# Altium schematic symbol library ICs.SchLib: 134 symbols (part 5 of 7)
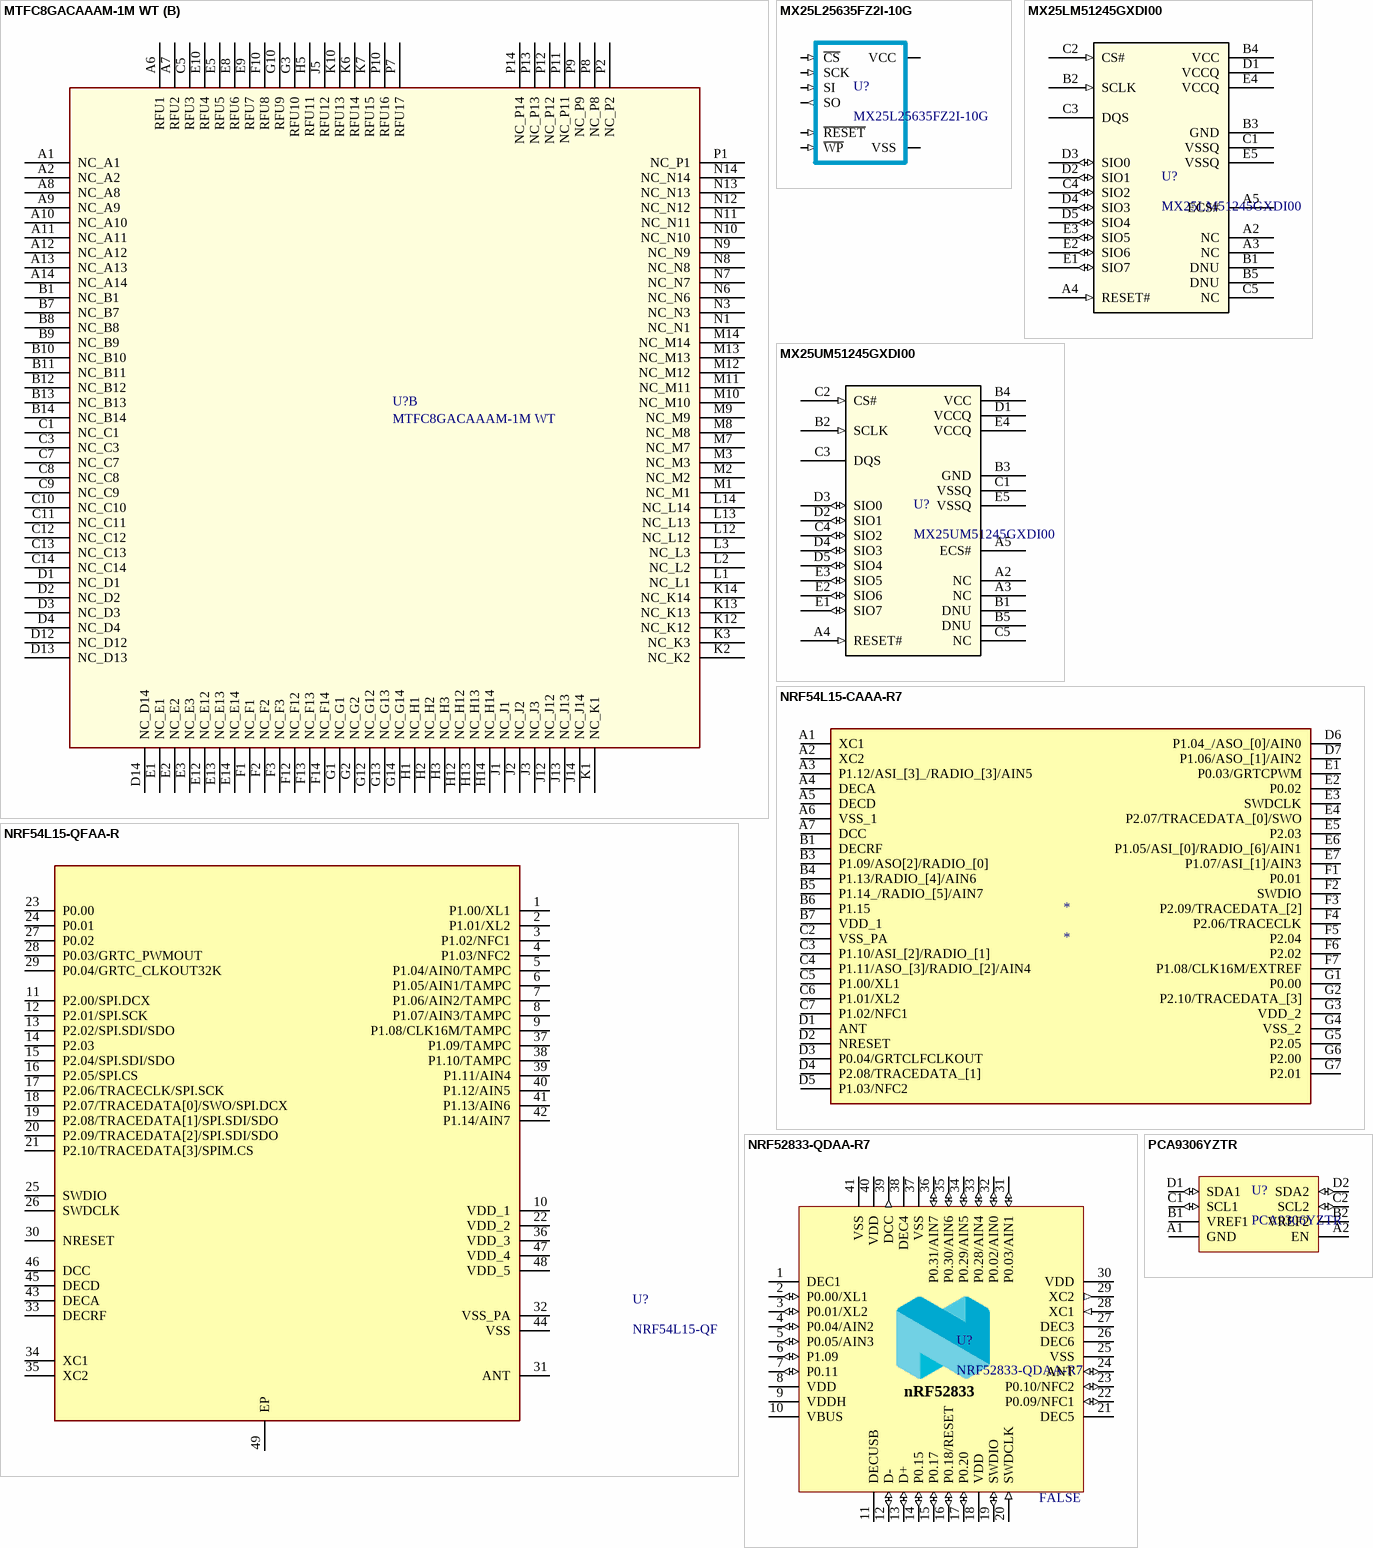
[diagram p30: symbols MTFC8GACAAAM-1M WT to PCA9306YZTR]

## PCA9306YZTR
designator U?
IC V-LEVL XLATR I2C/SMBUS 8DSBGA; Manufacturer: Texas Instruments; Logic Function: Translator, Bidirectional, Open Drain; Number of Bits: 2; Output Type: I²C/SMBus; Number of Outputs/Channel: 1; Differential - Input:Output: No/No; Propagation Delay (Max): 0.3ns; Voltage - Supply: 1.2 V ~ 3.3 V, 1.8 V ~ 5.5 V; Supplier 1: Digi-Key; Supplier Part Number 1: 296-27958-6-ND; Manufacturer Part Number: PCA9306YZTR; RoHS: RoHS Compliant; Category: Integrated Circuits (ICs); Stock 1: 3531; Pricing 1: 1=0.72, 10=0.634, 25=0.56, 100=0.488, 250=0.42484, 500=0.36162, 750=0.31597, 1000=0.28965 (EUR); Packaging: Digi-Reel®; Input Type: I2C/SMBus; Data Rate: -; Number of Channels: 2; Operating Temperature: -40°C ~ 85°C; Package / Case: 8-UFBGA, DSBGA; Supplier Device Package: 8-DSBGA, 8-WCSP (1.9x0.9); Mounting Type: Surface Mount; ComponentLink1URL: http://www.ti.com/lit/ds/symlink/pca9306.pdf; ComponentLink1Description: http://www.ti.com/lit/ds/symlink/pca9306.pdf
footprint BGA8C50P2X4_89X189X62 (BGA, 8-Leads, Body 0.89x1.89mmx0.63mm, Pitch 0.50mm)
pins: A1 GND (power), A2 EN (power), B1 VREF1 (power), B2 VREF2 (power), C1 SCL1 (io), C2 SCL2 (io), D1 SDA1 (io), D2 SDA2 (io)

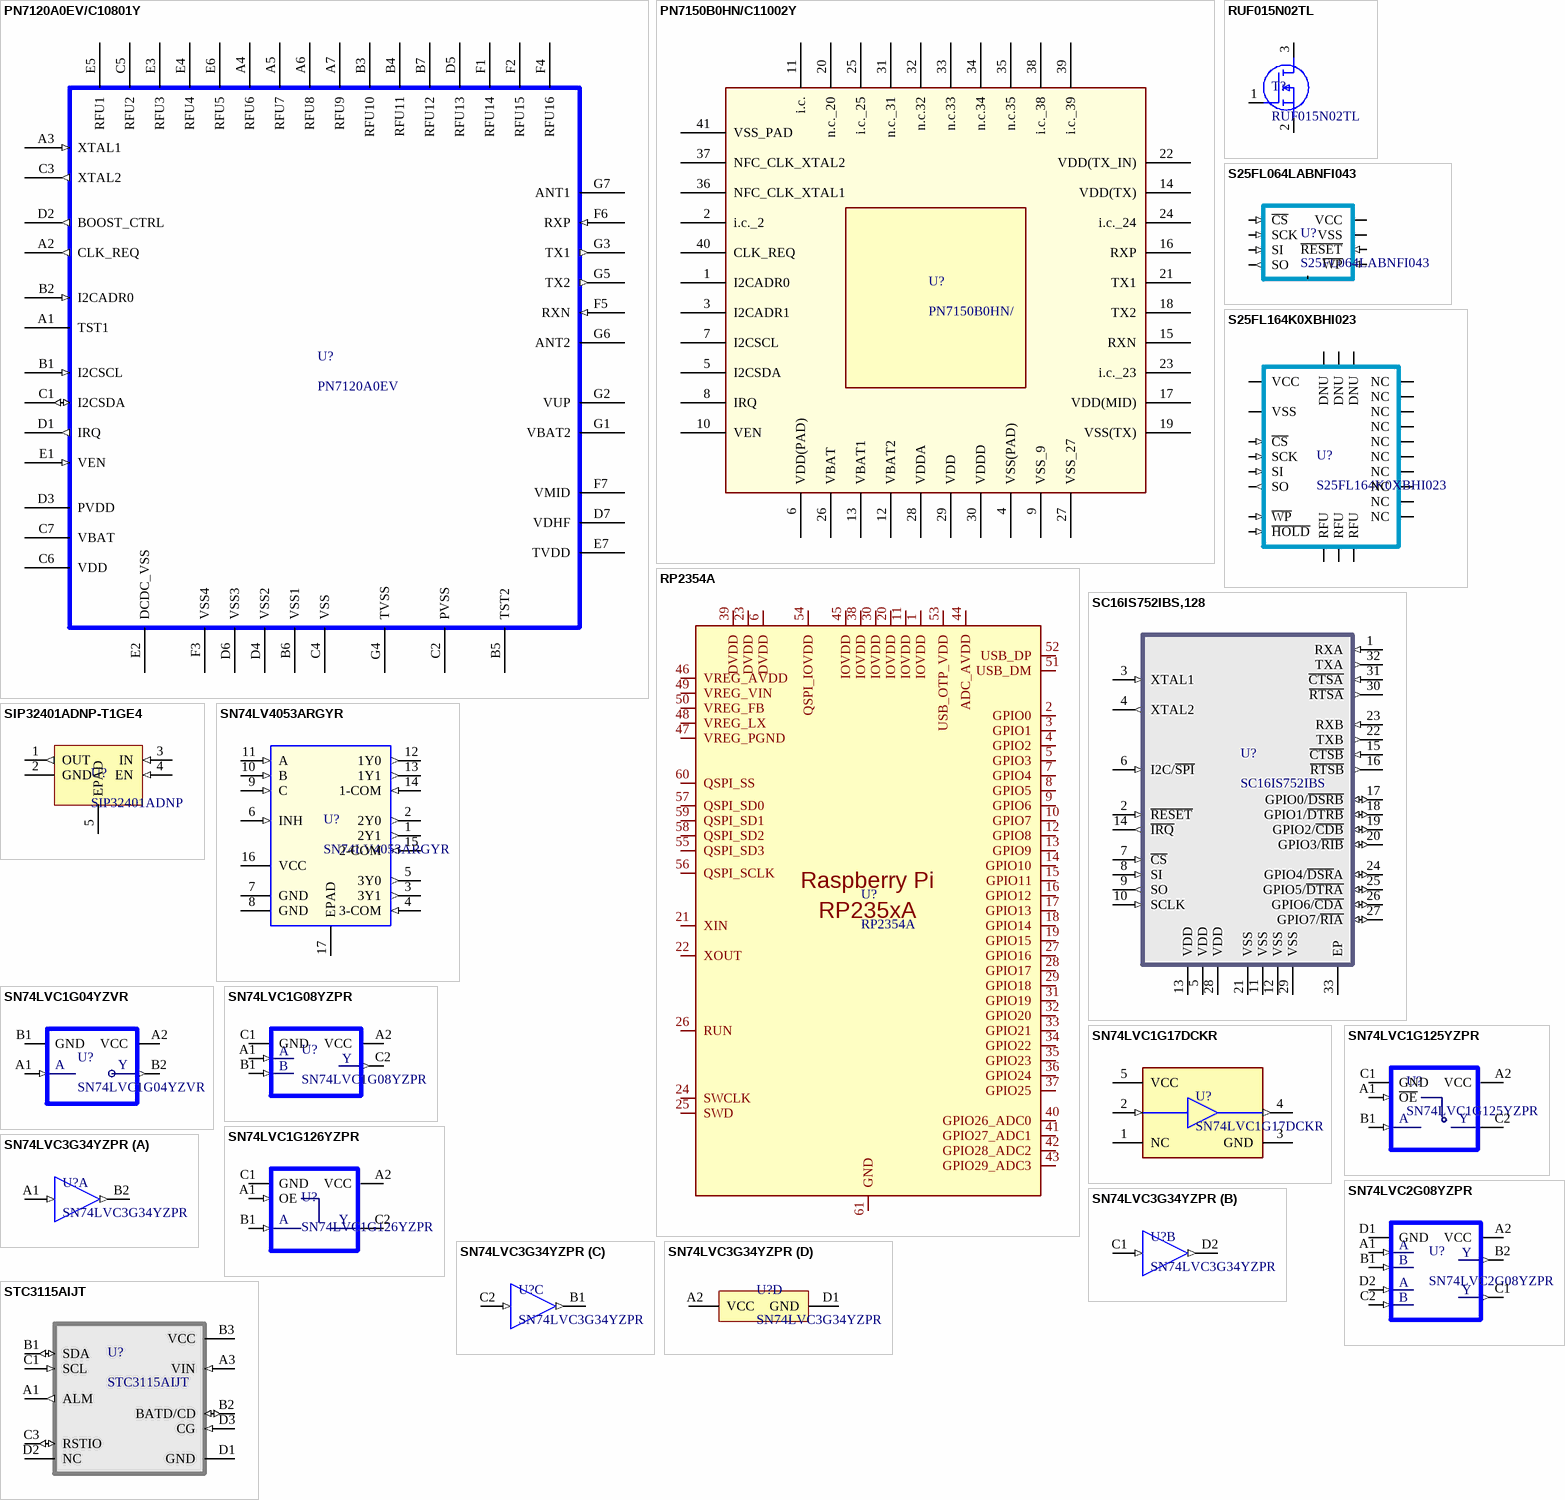
[diagram p23: symbols PN7120A0EV/C10801Y to STC3115AIJT]

## PN7120A0EV/C10801Y
designator U?, comment PN7120A0EV
IC NFC CTLR FW/NCI 49VFBGA; Manufacturer: NXP Semiconductors; Manufacturer Part Number: PN7120A0EV/C10801Y; Function: Controller; Frequency: 13.56MHz; RF Type: NFC, FeliCa; Supplier 1: Digi-Key; Supplier Part Number 1: 568-12485-6-ND; RoHS: RoHS Compliant; Category: RF/IF and RFID; Stock 1: 1611; Pricing 1: 1=5.63, 10=5.051, 100=4.1435, 500=3.5251, 1000=2.9685 (EUR); Packaging: Digi-Reel®; Part Status: Active; Secondary Attributes: -; Package / Case: 49-VFBGA; Supplier Device Package: 49-VFBGA (4x4.3); ComponentLink1URL: http://www.nxp.com/documents/data_sheet/PN7120.pdf; ComponentLink1Description: http://www.nxp.com/documents/data_sheet/PN7120.pdf
footprint BGA49C50P7X7_400X430X100 (BGA, 49-Leads, Body 4.00x4.30mmx1.00mm, Pitch 0.50mm)
pins: A1 TST1, A2 CLK_REQ (out), A3 XTAL1 (in), A4 RFU6, A5 RFU7, A6 RFU8, A7 RFU9, B1 I2CSCL (in), B2 I2CADR0 (in), B3 RFU10, B4 RFU11, B5 TST2, B6 VSS1 (power), B7 RFU12, C1 I2CSDA (io), C2 PVSS, C3 XTAL2 (out), C4 VSS (power), C5 RFU2, C6 VDD (power), C7 VBAT (power), D1 IRQ (out), D2 BOOST_CTRL (out), D3 PVDD (power), D4 VSS2 (power), D5 RFU13, D6 VSS3 (power), D7 VDHF, E1 VEN (in), E2 DCDC_VSS (power), E3 RFU3, E4 RFU4, E5 RFU1, E6 RFU5, E7 TVDD (power), F1 RFU14, F2 RFU15, F3 VSS4 (power), F4 RFU16, F5 RXN (in), F6 RXP (in), F7 VMID, G1 VBAT2, G2 VUP, G3 TX1 (out), G4 TVSS, G5 TX2 (out), G6 ANT2 (power), G7 ANT1 (power)

## PN7150B0HN/C11002Y
designator U?, comment PN7150B0HN/
IC RFID READER 13.56MHZ 40VFQFN; Manufacturer: NXP USA Inc.; Manufacturer Part Number: PN7150B0HN/C11002Y; Standards: FeliCa, ISO 14443, MIFARE, NFC; Interface: I²C, UART; Voltage - Supply: 2.3 V ~ 5.5 V; Supplier 1: Digi-Key; RoHS: RoHS Compliant; Category: RF/IF and RFID; Stock: 3797; Pricing: 1=7.73, 10=7.089, 25=6.4448, 100=5.8004, 250=5.31704, 500=4.83368, 1000=4.35031 (USD); Packaging: Digi-Reel®; Part Status: Active; Type: RFID Reader; Frequency: 13.56MHz; Operating Temperature: -30°C ~ 85°C; Package / Case: 40-VFQFN Exposed Pad; Supplier Device Package: 40-HVQFN (6x6); ComponentLink1URL: http://www.nxp.com/documents/data_sheet/PN7150.pdf; ComponentLink1Description: http://www.nxp.com/documents/data_sheet/PN7150.pdf; Supplier Part Number 1: 568-12994-6-ND
footprint QFN50P600X600X100_HS-41N (QFN, 40-Leads, Body 6.00x6.00mm, Pitch 0.50mm, Thermal Pad 4.10x4.10mm, IPC Medium Density)
pins: 1 I2CADR0, 2 i.c._2, 3 I2CADR1, 4 VSS(PAD), 5 I2CSDA, 6 VDD(PAD), 7 I2CSCL, 8 IRQ, 9 VSS_9, 10 VEN, 11 i.c., 12 VBAT2, 13 VBAT1, 14 VDD(TX), 15 RXN, 16 RXP, 17 VDD(MID), 18 TX2, 19 VSS(TX), 20 n.c._20, 21 TX1, 22 VDD(TX_IN), 23 i.c._23, 24 i.c._24, 25 i.c._25, 26 VBAT, 27 VSS_27, 28 VDDA, 29 VDD, 30 VDDD, 31 n.c._31, 32 n.c.32, 33 n.c.33, 34 n.c.34, 35 n.c.35, 36 NFC_CLK_XTAL1, 37 NFC_CLK_XTAL2, 38 i.c._38, 39 i.c._39, 40 CLK_REQ, 41 VSS_PAD

## RP2354A
designator U?
footprint QFN40P700X700X90_HS-61N (QFN, 60-Leads, Body 7.00x7.00mm, Pitch 0.40mm, Thermal Pad 3.40x3.40mm, IPC Medium Density)
pins: 1 IOVDD, 2 GPIO0, 3 GPIO1, 4 GPIO2, 5 GPIO3, 6 DVDD, 7 GPIO4, 8 GPIO5, 9 GPIO6, 10 GPIO7, 11 IOVDD, 12 GPIO8, 13 GPIO9, 14 GPIO10, 15 GPIO11, 16 GPIO12, 17 GPIO13, 18 GPIO14, 19 GPIO15, 20 IOVDD, 21 XIN, 22 XOUT, 23 DVDD, 24 SWCLK, 25 SWD, 26 RUN, 27 GPIO16, 28 GPIO17, 29 GPIO18, 30 IOVDD, 31 GPIO19, 32 GPIO20, 33 GPIO21, 34 GPIO22, 35 GPIO23, 36 GPIO24, 37 GPIO25, 38 IOVDD, 39 DVDD, 40 GPIO26_ADC0, 41 GPIO27_ADC1, 42 GPIO28_ADC2, 43 GPIO29_ADC3, 44 ADC_AVDD, 45 IOVDD, 46 VREG_AVDD, 47 VREG_PGND, 48 VREG_LX, 49 VREG_VIN, 50 VREG_FB, 51 USB_DM, 52 USB_DP, 53 USB_OTP_VDD, 54 QSPI_IOVDD, 55 QSPI_SD3, 56 QSPI_SCLK, 57 QSPI_SD0, 58 QSPI_SD2, 59 QSPI_SD1, 60 QSPI_SS, 61 GND
text: Raspberry Pi; RP235xA

## RUF015N02TL
designator T?
RUF015N02 Series N-Channel 20 V 180 mOhm MosFet Surface Mount - TUMT-3; Manufacturer: Rohm; Supplier: Digikey; Supplier Part Number: RUF015N02TLDKR-ND; Manufacturer Part Number: RUF015N02TL; RoHS: Yes; Category: MOSFETs; Stock: 13851; Pricing: 1=0.47, 10=0.404, 100=0.281, 500=0.21938, 1000=0.17832 (USD); ComponentLink1URL: https://datasheet.ciiva.com/16484/ruf015n02-16484062.pdf?src-supplier=Future+Electronics; ComponentLink1Description: https://datasheet.ciiva.com/16484/ruf015n02-16484062.pdf?src-supplier=Future+Electronics; ComponentLink2URL: https://datasheet.ciiva.com/6385/ruf015n02-6385249.pdf?src-supplier=Digikey; ComponentLink2Description: https://datasheet.ciiva.com/6385/ruf015n02-6385249.pdf?src-supplier=Digikey; ComponentLink3URL: https://datasheet.ciiva.com/4444/ruf015n02-210922-4444944.pdf?src-supplier=Mouser; ComponentLink3Description: https://datasheet.ciiva.com/4444/ruf015n02-210922-4444944.pdf?src-supplier=Mouser; ComponentLink4URL: https://datasheet.ciiva.com/7967/1645434-7967304.pdf?src-supplier=Element14; ComponentLink4Description: https://datasheet.ciiva.com/7967/1645434-7967304.pdf?src-supplier=Element14; ComponentLink5URL: https://datasheet.ciiva.com/6385/ruf015n02-6385245.pdf?src-supplier=Digikey; ComponentLink5Description: https://datasheet.ciiva.com/6385/ruf015n02-6385245.pdf?src-supplier=Digikey; Supplier 1: Digikey; Supplier Part Number 1: RUF015N02TLDKR-ND; Supplier 2: Mouser; Supplier Part Number 2: 755-RUF015N02TL
footprint SOTFL65P210X85-3N
pins: 1 G, 2 S, 3 D

## S25FL064LABNFI043
designator U?
IC FLASH NOR 8USON; Manufacturer: Cypress Semiconductor Corp; Memory Type: Non-Volatile; Memory Size: 64Mb (8M x 8); Memory Interface: SPI - Quad I/O, QPI; Voltage - Supply: 2.7 V ~ 3.6 V; .Checked Footprint: Yes; Supplier 1: Digi-Key; Manufacturer Part Number: S25FL064LABNFI043; RoHS: RoHS Compliant; Category: Integrated Circuits (ICs); Stock: 21254; Pricing: 1=1.68 (USD); Packaging: Digi-Reel®; Part Status: Active; Memory Format: FLASH; Technology: FLASH - NOR; Write Cycle Time - Word, Page: -; Operating Temperature: -40°C ~ 85°C (TA); Mounting Type: Surface Mount; Package / Case: 8-UDFN Exposed Pad; Supplier Device Package: 8-USON (4x4); ComponentLink1URL: http://www.cypress.com/file/316661/download; ComponentLink1Description: http://www.cypress.com/file/316661/download; Supplier Part Number 1: 428-4075-6-ND; .CheckedSchematic: Yes
footprint SON80P400X60_HS-9N (Footprint not found)
pins: 1 ~{CS} (in), 2 SO (out), 3 ~{WP} (in), 4 VSS (power), 5 SI (in), 6 SCK (in), 7 ~{RESET} (in), 8 VCC (power), 9 NC

## S25FL164K0XBHI023
designator U?
IC FLASH 64MBIT 24BGA; Manufacturer: Cypress Semiconductor Corp; Memory Type: FLASH - NOR; Memory Size: 64M (8M x 8); Speed: 108MHz; Interface: SPI Serial; Voltage - Supply: 2.7 V ~ 3.6 V; Supplier 1: Digi-Key; Supplier Part Number 1: 1274-1107-6-ND; Manufacturer Part Number: S25FL164K0XBHI023; RoHS: RoHS Compliant; Category: Integrated Circuits (ICs); Stock 1: 3407; Pricing 1: 1=1.14, 10=1.042, 25=1.0132, 50=1.0078, 100=0.901, 250=0.89832, 500=0.88496, 1000=0.847 (EUR); Packaging: Digi-Reel®; Part Status: Active; Format - Memory: FLASH; Operating Temperature: -40°C ~ 85°C (TA); Package / Case: 24-TBGA; Supplier Device Package: 24-BGA (6x8); ComponentLink1URL: http://www.cypress.com/file/196886/download; ComponentLink1Description: http://www.cypress.com/file/196886/download
footprint BGA24C100P5X5_600X800X120 (BGA, 24-Leads, Body 6.00x8.00mmx1.20mm, Pitch 1.00mm)
ibis FL164K (Model Description)
pins: A2 NC, A3 NC, A4 RFU, A5 NC, B1 DNU, B2 SCK (in), B3 VSS (power), B4 VCC (power), B5 NC, C1 DNU, C2 ~{CS} (in), C3 RFU, C4 ~{WP} (in), C5 NC, D1 DNU, D2 SO (out), D3 SI (in), D4 ~{HOLD} (in), D5 NC, E1 NC, E2 NC, E3 NC, E4 RFU, E5 NC

## SC16IS752IBS,128
designator U?, comment SC16IS752IBS
UART Interface IC I2C/SPI-UARTBRIDGE; Manufacturer: NXP Semiconductors; Manufacturer Part Number: SC16IS752IBS,128; Data Rate: 5 Mbps; Memory Size: 64 B; Number of Channels: 2 Channel; Operating Supply Current: 6 mA; Operating Supply Voltage: 2.5 V, 3.3 V; Supply Voltage - Max: 3.6 V; Supply Voltage - Min: 2.3 V; Supplier 1: Mouser; Supplier Part Number 1: 771-SC16IS752IBS128; RoHS: RoHS Compliant; Category: UART Interface IC; Stock 1: 0; Pricing 1: 1=3.48, 10=3.10, 100=2.82, 250=2.55, 500=2.27, 1000=1.92, 1500=1.83, 4500=1.79 (EUR); Height: 0.85 mm; Length: 5 mm; Package / Case: HVQFN-32; Packaging: Reel; Type: IrDA or RS-232 or RS-485; Width: 5 mm; Brand: NXP Semiconductors; Mounting Style: SMD/SMT; Maximum Operating Temperature: + 95 C; Minimum Operating Temperature: - 40 C; Standard Pack Qty: 1500; RoHS - Mouser: Y; Minimum Order Quantity: 1; Reeling: True; ComponentLink1URL: http://www.mouser.com/ds/2/302/SC16IS752_SC16IS762-843678.pdf; ComponentLink1Description: http://www.mouser.com/ds/2/302/SC16IS752_SC16IS762-843678.pdf
footprint QFN50P500X500X100_HS-33N (QFN, 32-Leads, Body 5.00x5.00mm, Pitch 0.50mm, Thermal Pad 3.20x3.20mm, IPC Medium Density)
pins: 1 RXA (in), 2 ~{RESET} (in), 3 XTAL1 (in), 4 XTAL2 (out), 5 VDD (power), 6 I2C/~{SPI} (in), 7 ~{CS} (in), 8 SI (in), 9 SO (out), 10 SCLK (in), 11 VSS (power), 12 VSS (power), 13 VDD (power), 14 ~{IRQ} (out), 15 ~{CTSB} (in), 16 ~{RTSB} (out), 17 GPIO0/~{DSRB} (io), 18 GPIO1/~{DTRB} (io), 19 GPIO2/~{CDB} (io), 20 GPIO3/~{RIB} (io), 21 VSS (power), 22 TXB (out), 23 RXB (in), 24 GPIO4/~{DSR}A (io), 25 GPIO5/~{DTRA} (io), 26 GPIO6/~{CDA} (io), 27 GPIO7/~{RIA} (io), 28 VDD (power), 29 VSS (power), 30 ~{RTSA} (out), 31 ~{CTSA} (in), 32 TXA (out), 33 EP

## SIP32401ADNP-T1GE4
designator U?, comment SIP32401ADNP
IC SW W/CTRL SLEW RATE 4TDFN; Manufacturer: Vishay Siliconix; Manufacturer Part Number: SIP32401ADNP-T1GE4; Switch Type: General Purpose; Number of Outputs: 1; Ratio - Input:Output: 1:1; Output Configuration: High Side; Output Type: N-Channel; Interface: On/Off; Voltage - Load: 1.1 V ~ 5.5 V; Voltage - Supply (Vcc/Vdd): Not Required; Current - Output (Max): 2.4A; Rds On (Typ): 62 mOhm; Input Type: Non-Inverting; Fault Protection: Reverse Current; .CheckedDesignator: Yes; Supplier 1: Digi-Key; RoHS: RoHS Compliant; Category: Integrated Circuits (ICs); Stock: 34485; Pricing: 1=0.61, 10=0.519, 25=0.4844, 100=0.3876, 250=0.35992, 500=0.30454, 1000=0.23533 (USD); Packaging: Digi-Reel®; Part Status: Active; Features: Slew Rate Controlled; Operating Temperature: -40°C ~ 125°C (TJ); Package / Case: 4-UFDFN Exposed Pad; Supplier Device Package: 4-TDFN (1.2x1.6); Base Part Number: SIP3240*A; ComponentLink1URL: http://www.vishay.com/docs/63705/sip32401a.pdf; ComponentLink1Description: http://www.vishay.com/docs/63705/sip32401a.pdf; Supplier Part Number 1: SIP32401ADNP-T1GE4DKR-ND; .CheckedFootprint: Yes
footprint SON50P160X60_HS-5N (SON, 4-Leads, Body 1.20x1.60mm, Pitch 0.50mm, Thermal Pad 0.86x0.43mm, IPC Medium Density)
pins: 1 OUT (out), 2 GND (power), 3 IN (in), 4 EN (in), 5 EPAD

## SN74LV4053ARGYR
designator U?
5-V, 2: 1 (SPDT), 3-channel analog switch 16-VQFN -40 to 85; Manufacturer: Texas Instruments; Supplier: Mouser; Supplier Part Number: 595-SN74LV4053ARGYR; Manufacturer Part Number: SN74LV4053ARGYR; RoHS: Yes; Category: Decoders and Multiplexers; Stock: 8410; Pricing: 1=0.59, 10=0.5, 50=0.5, 100=0.371, 1000=0.227, 10000=0.179 (USD); ComponentLink1URL: https://datasheet.ciiva.com/1671/sn74lv4053a-1671266.pdf?src-supplier=Digikey; ComponentLink1Description: https://datasheet.ciiva.com/1671/sn74lv4053a-1671266.pdf?src-supplier=Digikey; ComponentLink2URL: https://datasheet.ciiva.com/1671/sn74lv4053a-1671267.pdf?src-supplier=Digikey; ComponentLink2Description: https://datasheet.ciiva.com/1671/sn74lv4053a-1671267.pdf?src-supplier=Digikey; ComponentLink3URL: https://datasheet.ciiva.com/1671/sn74lv4053a-1671268.pdf?src-supplier=Digikey; ComponentLink3Description: https://datasheet.ciiva.com/1671/sn74lv4053a-1671268.pdf?src-supplier=Digikey; Supplier 1: Mouser; Supplier Part Number 1: 595-SN74LV4053ARGYR; Supplier 2: Digikey; Supplier Part Number 2: 296-13947-1-ND
footprint RGY16_2P55X2P05
pins: 1 2Y1 (out), 2 2Y0 (out), 3 3Y1 (out), 4 3-COM (in), 5 3Y0 (out), 6 INH (in), 7 GND (power), 8 GND (power), 9 C (in), 10 B (in), 11 A (in), 12 1Y0 (out), 13 1Y1 (out), 14 1-COM (in), 15 2-COM (in), 16 VCC (power), 17 EPAD

## SN74LVC1G04YZVR
designator U?
IC SNGL INVERTER GATE 4-DSBGA; Manufacturer: Texas Instruments; Number of Circuits: 1; Voltage - Supply: 1.65 V ~ 5.5 V; Current - Quiescent (Max): 10µA; Current - Output High, Low: 32mA, 32mA; Logic Level - Low: 0.7 V ~ 0.8 V; Logic Level - High: 1.7 V ~ 2 V; Max Propagation Delay @ V, Max CL: 3.7ns @ 5V, 50pF; Supplier 1: Digi-Key; Manufacturer Part Number: SN74LVC1G04YZVR; RoHS: RoHS Compliant; Category: Integrated Circuits (ICs); Stock 1: 12400; Pricing 1: 1=0.34, 10=0.292, 100=0.2184, 500=0.17154, 1000=0.13225 (GBP); Packaging: Digi-Reel®; Part Status: Active; Logic Type: Inverter; Number of Inputs: 1; Features: -; Operating Temperature: -40°C ~ 85°C; Mounting Type: Surface Mount; Supplier Device Package: 4-DSBGA (0.9x0.9); Package / Case: 4-XFBGA, DSBGA; ComponentLink1URL: http://www.ti.com/lit/ds/symlink/sn74lvc1g04.pdf; ComponentLink1Description: http://www.ti.com/lit/ds/symlink/sn74lvc1g04.pdf; Supplier Part Number 1: 296-21055-6-ND
footprint BGA4C50P2X2_89X89X50 (BGA, 4-Leads, Body 0.89x0.89mmx0.50mm, Pitch 0.50mm)
ibis LVC1G04_YZP (Model Description)
pins: A1 1A (in), A2 VCC (power), B1 GND (power), B2 1Y (out)
text: A; Y

## SN74LVC1G08YZPR
designator U?
IC GATE AND 1CH 2-INP 5-DSBGA; Manufacturer: Texas Instruments; Logic Type: AND Gate; Number of Circuits: 1; Number of Inputs: 2; Voltage - Supply: 1.65 V ~ 5.5 V; Current - Quiescent (Max): 10µA; Current - Output High, Low: 32mA, 32mA; Max Propagation Delay @ V, Max CL: 4ns @ 5V, 50pF; Supplier 1: Digi-Key; Manufacturer Part Number: SN74LVC1G08YZPR; RoHS: RoHS Compliant; Category: Integrated Circuits (ICs); Stock 1: 7086; Pricing 1: 1=0.38, 10=0.322, 100=0.2402, 500=0.1887, 1000=0.14547 (GBP); Packaging: Digi-Reel®; Part Status: Active; Features: -; Logic Level - Low: -; Logic Level - High: -; Operating Temperature: -40°C ~ 85°C; Mounting Type: Surface Mount; Supplier Device Package: 5-DSBGA, 5-WCSP (1.4x0.9); Package / Case: 5-XFBGA, DSBGA; ComponentLink1URL: http://www.ti.com/lit/ds/symlink/sn74lvc1g08.pdf; ComponentLink1Description: http://www.ti.com/lit/ds/symlink/sn74lvc1g08.pdf; Supplier Part Number 1: 296-14358-6-ND
footprint BGA5C50P2X3_89X139X50 (BGA, 5-Leads, Body 0.89x1.39mmx0.50mm, Pitch 0.50mm)
ibis LVC1G08_DRY (Model Description)
pins: A1 1A (in), A2 VCC (power), B1 1B (in), C1 GND (power), C2 1Y (out)
text: A; Y; B

## SN74LVC1G17DCKR
designator U?
Single 1.65-V to 5.5-V buffer with Schmitt-Trigger inputs 5-SC70 -40 to 125; Manufacturer: Texas Instruments; Manufacturer Lifecycle Status: ACTIVE; High Level Output Current: -32mA; Logic Function: Buffer, Schmitt Trigger; Low Level Output Current: 32mA; Max Supply Voltage: 5.5V; Min Supply Voltage: 1.65V; Nominal Supply Current: 500nA; Number of Bits: 1; Polarity: Non-Inverting; Propagation Delay: 5ns; Quiescent Current: 1.5µA; Turn-On Delay Time: 11ns; Supplier: Arrow Electronics; Supplier Part Number: SN74LVC1G17DCKR; Manufacturer Part Number: SN74LVC1G17DCKR; RoHS: Compliant; Category: Logic Gates; Stock: 569; Pricing: 38=0.139, 250=0.1279, 500=0.1212 (USD); Ambient Temperature Range High: 125°C; Case/Package: SC; Contact Plating: Gold; Height: 1.1mm; Lead Free: Lead Free; Length: 2mm; Lifecycle Status: Production; Max Operating Temperature: 125°C; Min Operating Temperature: -40°C; Mounting Technology: Surface Mount; Number of Bits per Element: 1; Number of Channels: 1; Number of Circuits: 1; Number of Elements: 1; Number of Gates: 1; Number of Input Lines: 1; Number of Inputs: 1; Number of Output Lines: 1; Number of Outputs: 1; Pins: 5; Packaging: Cut Tape; Radiation Hardening: No; REACH SVHC: No; Schedule B: 8542390000, 8542390000|8542390000|8542390000|8542390000|8542390000; Termination: SMD/SMT; Thickness: 900µm; Width: 1.25mm; ComponentLink1URL: https://sigma.octopart.com:443/182282879/technical_drawing/Texas-Instruments-SN74LVC1G17DCKR.pdf?src-supplier=Texas+Instruments; ComponentLink1Description: https://sigma.octopart.com:443/182282879/technical_drawing/Texas-Instruments-SN74LVC1G17DCKR.pdf?src-supplier=Texas+Instruments; ComponentLink2URL: https://octopart.com:443/opatz8j6/c1?t=XbiYU9riBaniRQQHYGijaagzxDo25E3aI65apdbqQaQQiC-9IpRiT-EdEVVTr6pLhImL2AVudSB0DNAuFU84O651P9OOQTU_L_qY4_jolZFQQ4hX7XSI0L7QNIIpcy172ZwZaDP4aglsf0yR9ZL1hNYyJqzCXbZtUrpJS3N3FesDaDiES1a6Px7nhUnozPzqpzTe5iUOk8y4Rcz6t8rTn2RGyY6QsUNJSZWDBIZXAzT1suXSkrAzGozk-tVnSOYQ2gYg-5JWbgN3rJrjeIvjUREaw7UO0YCzYLKrCznlkAs1sdgD8X1us3M_rw3cX0BTLuMUipWqcB-a45738rlwpKXNU6v7YnDDRZvSsy3L9G55rx0xICsB-C2RXj195j-WFlfujBRX&src-supplier=Texas+Instruments; ComponentLink2Description: https://octopart.com:443/opatz8j6/c1?t=XbiYU9riBaniRQQHYGijaagzxDo25E3aI65apdbqQaQQiC-9IpRiT-EdEVVTr6pLhImL2AVudSB0DNAuFU84O651P9OOQTU_L_qY4_jolZFQQ4hX7XSI0L7QNIIpcy172ZwZaDP4aglsf0yR9ZL1hNYyJqzCXbZtUrpJS3N3FesDaDiES1a6Px7nhUnozPzqpzTe5iUOk8y4Rcz6t8rTn2RGyY6QsUNJSZWDBIZXAzT1suXSkrAzGozk-tVnSOYQ2gYg-5JWbgN3rJrjeIvjUREaw7UO0YCzYLKrCznlkAs1sdgD8X1us3M_rw3cX0BTLuMUipWqcB-a45738rlwpKXNU6v7YnDDRZvSsy3L9G55rx0xICsB-C2RXj195j-WFlfujBRX&src-supplier=Texas+Instruments; ComponentLink3URL: https://sigma.octopart.com:443/179129132/technical_drawing/Texas-Instruments-SN74LVC1G17DCKR.pdf?src-supplier=Texas+Instruments; ComponentLink3Description: https://sigma.octopart.com:443/179129132/technical_drawing/Texas-Instruments-SN74LVC1G17DCKR.pdf?src-supplier=Texas+Instruments; ComponentLink4URL: https://sigma.octopart.com:443/176385615/technical_drawing/Texas-Instruments-SN74LVC1G17DCKR.pdf?src-supplier=Texas+Instruments; ComponentLink4Description: https://sigma.octopart.com:443/176385615/technical_drawing/Texas-Instruments-SN74LVC1G17DCKR.pdf?src-supplier=Texas+Instruments; ComponentLink5URL: https://sigma.octopart.com:443/169406035/technical_drawing/Texas-Instruments-SN74LVC1G17DCKR.pdf?src-supplier=Texas+Instruments; ComponentLink5Description: https://sigma.octopart.com:443/169406035/technical_drawing/Texas-Instruments-SN74LVC1G17DCKR.pdf?src-supplier=Texas+Instruments; ComponentLink6URL: https://datasheet.octopart.com:443/SN74LVC1G17DCKR-Texas-Instruments-datasheet-25356049.pdf?src-supplier=Texas+Instruments; ComponentLink6Description: https://datasheet.octopart.com:443/SN74LVC1G17DCKR-Texas-Instruments-datasheet-25356049.pdf?src-supplier=Texas+Instruments; ComponentLink7URL: https://datasheet.octopart.com:443/SN74LVC1G17DCKR-Texas-Instruments-datasheet-13037214.pdf?src-supplier=Texas+Instruments; ComponentLink7Description: https://datasheet.octopart.com:443/SN74LVC1G17DCKR-Texas-Instruments-datasheet-13037214.pdf?src-supplier=Texas+Instruments; ComponentLink8URL: https://datasheet.octopart.com:443/SN74LVC1G17DCKR-Texas-Instruments-datasheet-10899358.pdf?src-supplier=Texas+Instruments; ComponentLink8Description: https://datasheet.octopart.com:443/SN74LVC1G17DCKR-Texas-Instruments-datasheet-10899358.pdf?src-supplier=Texas+Instruments; ComponentLink9URL: https://datasheet.octopart.com:443/SN74LVC1G17DCKR-Texas-Instruments-datasheet-10669839.pdf?src-supplier=Texas+Instruments; ComponentLink9Description: https://datasheet.octopart.com:443/SN74LVC1G17DCKR-Texas-Instruments-datasheet-10669839.pdf?src-supplier=Texas+Instruments; ComponentLink10URL: https://datasheet.octopart.com:443/SN74LVC1G17DCKR-Texas-Instruments-datasheet-152405.pdf?src-supplier=Texas+Instruments; ComponentLink10Description: https://datasheet.octopart.com:443/SN74LVC1G17DCKR-Texas-Instruments-datasheet-152405.pdf?src-supplier=Texas+Instruments; ComponentLink11URL: https://datasheet.octopart.com:443/SN74LVC1G17DCKR-Texas-Instruments-datasheet-151447.pdf?src-supplier=Texas+Instruments; ComponentLink11Description: https://datasheet.octopart.com:443/SN74LVC1G17DCKR-Texas-Instruments-datasheet-151447.pdf?src-supplier=Texas+Instruments; ComponentLink12URL: https://sigma.octopart.com:443/49249326/technical_drawing/Texas-Instruments-SN74LVC1G17DCKR.pdf?src-supplier=Texas+Instruments; ComponentLink12Description: https://sigma.octopart.com:443/49249326/technical_drawing/Texas-Instruments-SN74LVC1G17DCKR.pdf?src-supplier=Texas+Instruments; ComponentLink13URL: https://datasheet.octopart.com:443/SN74LVC1G17DCKR-Texas-Instruments-datasheet-10256894.pdf?src-supplier=Texas+Instruments; ComponentLink13Description: https://datasheet.octopart.com:443/SN74LVC1G17DCKR-Texas-Instruments-datasheet-10256894.pdf?src-supplier=Texas+Instruments; ComponentLink14URL: https://datasheet.octopart.com:443/SN74LVC1G17DCKR-Texas-Instruments-datasheet-21221582.pdf?src-supplier=Upverter; ComponentLink14Description: https://datasheet.octopart.com:443/SN74LVC1G17DCKR-Texas-Instruments-datasheet-21221582.pdf?src-supplier=Upverter; ComponentLink15URL: https://datasheet.octopart.com:443/SN74LVC1G17DCKR-Texas-Instruments-datasheet-65713482.pdf?src-supplier=Farnell; ComponentLink15Description: https://datasheet.octopart.com:443/SN74LVC1G17DCKR-Texas-Instruments-datasheet-65713482.pdf?src-supplier=Farnell; ComponentLink16URL: https://datasheet.octopart.com:443/SN74LVC1G17DCKR-Texas-Instruments-datasheet-37730935.pdf?src-supplier=Farnell; ComponentLink16Description: https://datasheet.octopart.com:443/SN74LVC1G17DCKR-Texas-Instruments-datasheet-37730935.pdf?src-supplier=Farnell; ComponentLink17URL: https://datasheet.octopart.com:443/SN74LVC1G17DCKR-Texas-Instruments-datasheet-10413188.pdf?src-supplier=Farnell; ComponentLink17Description: https://datasheet.octopart.com:443/SN74LVC1G17DCKR-Texas-Instruments-datasheet-10413188.pdf?src-supplier=Farnell; ComponentLink18URL: https://datasheet.octopart.com:443/SN74LVC1G17DCKR-Texas-Instruments-datasheet-8639487.pdf?src-supplier=Farnell; ComponentLink18Description: https://datasheet.octopart.com:443/SN74LVC1G17DCKR-Texas-Instruments-datasheet-8639487.pdf?src-supplier=Farnell; ComponentLink19URL: https://datasheet.octopart.com:443/SN74LVC1G17DCKR-Texas-Instruments-datasheet-552698.pdf?src-supplier=Farnell; ComponentLink19Description: https://datasheet.octopart.com:443/SN74LVC1G17DCKR-Texas-Instruments-datasheet-552698.pdf?src-supplier=Farnell; ComponentLink20URL: https://datasheet.octopart.com:443/SN74LVC1G17DCKR-Texas-Instruments-datasheet-536266.pdf?src-supplier=Farnell; ComponentLink20Description: https://datasheet.octopart.com:443/SN74LVC1G17DCKR-Texas-Instruments-datasheet-536266.pdf?src-supplier=Farnell; ComponentLink21URL: https://datasheet.octopart.com:443/SN74LVC1G17DCKR-Texas-Instruments-datasheet-165804492.pdf?src-supplier=LCSC; ComponentLink21Description: https://datasheet.octopart.com:443/SN74LVC1G17DCKR-Texas-Instruments-datasheet-165804492.pdf?src-supplier=LCSC; ComponentLink22URL: https://datasheet.octopart.com:443/SN74LVC1G17DCKR-Texas-Instruments-datasheet-159116651.pdf?src-supplier=LCSC; ComponentLink22Description: https://datasheet.octopart.com:443/SN74LVC1G17DCKR-Texas-Instruments-datasheet-159116651.pdf?src-supplier=LCSC; ComponentLink23URL: https://datasheet.octopart.com:443/SN74LVC1G17DCKR.-Texas-Instruments-datasheet-62088883.pdf?src-supplier=element14+APAC; ComponentLink23Description: https://datasheet.octopart.com:443/SN74LVC1G17DCKR.-Texas-Instruments-datasheet-62088883.pdf?src-supplier=element14+APAC; ComponentLink24URL: https://datasheet.octopart.com:443/SN74LVC1G17DCKR-Texas-Instruments-datasheet-137316104.pdf?src-supplier=Future+Electronics; ComponentLink24Description: https://datasheet.octopart.com:443/SN74LVC1G17DCKR-Texas-Instruments-datasheet-137316104.pdf?src-supplier=Future+Electronics; ComponentLink25URL: https://datasheet.octopart.com:443/SN74LVC1G17DCKR-Texas-Instruments-datasheet-37129457.pdf?src-supplier=Newark; ComponentLink25Description: https://datasheet.octopart.com:443/SN74LVC1G17DCKR-Texas-Instruments-datasheet-37129457.pdf?src-supplier=Newark; ComponentLink26URL: https://datasheet.octopart.com:443/SN74LVC1G17DCKR-Texas-Instruments-datasheet-11534093.pdf?src-supplier=Newark; ComponentLink26Description: https://datasheet.octopart.com:443/SN74LVC1G17DCKR-Texas-Instruments-datasheet-11534093.pdf?src-supplier=Newark; ComponentLink27URL: https://datasheet.octopart.com:443/SN74LVC1G17DCKR-Texas-Instruments-datasheet-8506982.pdf?src-supplier=Newark; ComponentLink27Description: https://datasheet.octopart.com:443/SN74LVC1G17DCKR-Texas-Instruments-datasheet-8506982.pdf?src-supplier=Newark; ComponentLink28URL: https://datasheet.octopart.com:443/SN74LVC1G17DCKR-Texas-Instruments-datasheet-5316727.pdf?src-supplier=Newark; ComponentLink28Description: https://datasheet.octopart.com:443/SN74LVC1G17DCKR-Texas-Instruments-datasheet-5316727.pdf?src-supplier=Newark; ComponentLink29URL: https://datasheet.octopart.com:443/SN74LVC1G17DCKR-Texas-Instruments-datasheet-14144602.pdf?src-supplier=iiiC; ComponentLink29Description: https://datasheet.octopart.com:443/SN74LVC1G17DCKR-Texas-Instruments-datasheet-14144602.pdf?src-supplier=iiiC; ComponentLink30URL: https://datasheet.octopart.com:443/SN74LVC1G17DCKR-Texas-Instruments-datasheet-8221297.pdf?src-supplier=Jameco; ComponentLink30Description: https://datasheet.octopart.com:443/SN74LVC1G17DCKR-Texas-Instruments-datasheet-8221297.pdf?src-supplier=Jameco; ComponentLink31URL: https://datasheet.octopart.com:443/SN74LVC1G17DCKR-Texas-Instruments-datasheet-24634.pdf?src-supplier=DigiKey; ComponentLink31Description: https://datasheet.octopart.com:443/SN74LVC1G17DCKR-Texas-Instruments-datasheet-24634.pdf?src-supplier=DigiKey; ComponentLink32URL: https://datasheet.octopart.com:443/SN74LVC1G17DCKR-Texas-Instruments-datasheet-113246.pdf?src-supplier=Sierra+IC; ComponentLink32Description: https://datasheet.octopart.com:443/SN74LVC1G17DCKR-Texas-Instruments-datasheet-113246.pdf?src-supplier=Sierra+IC; ComponentLink33URL: http://sigma.octopart.com:80/reach_statement/Texas-Instruments-company-64.pdf?src-supplier=Compliance+Statements; ComponentLink33Description: http://sigma.octopart.com:80/reach_statement/Texas-Instruments-company-64.pdf?src-supplier=Compliance+Statements; ComponentLink34URL: http://sigma.octopart.com:80/conflict_mineral_statement/Texas-Instruments-company-63.pdf?src-supplier=Compliance+Statements; ComponentLink34Description: http://sigma.octopart.com:80/conflict_mineral_statement/Texas-Instruments-company-63.pdf?src-supplier=Compliance+Statements; Supplier 1: Arrow Electronics; Supplier Part Number 1: SN74LVC1G17DCKR
footprint FP-DCK0005A-MFG
pins: 1 NC, 2 A (in), 3 GND (power), 4 Y (out), 5 VCC (power)

## SN74LVC1G125YZPR
designator U?
IC BUS BUFF TRI-ST N-INV 5DSBGA; Manufacturer: Texas Instruments; Logic Type: Buffer, Non-Inverting; Number of Elements: 1; Output Type: Push-Pull; Current - Output High, Low: 32mA, 32mA; Voltage - Supply: 1.65 V ~ 5.5 V; Supplier 1: Digi-Key; Supplier Part Number 1: 296-18759-6-ND; Manufacturer Part Number: SN74LVC1G125YZPR; RoHS: RoHS Compliant; Category: Integrated Circuits (ICs); Stock 1: 8902; Pricing 1: 1=0.41, 10=0.359, 100=0.2676, 500=0.21018, 1000=0.16203 (EUR); Packaging: Digi-Reel®; Part Status: Active; Number of Bits per Element: 1; Input Type: -; Operating Temperature: -40°C ~ 85°C (TA); Mounting Type: Surface Mount; Package / Case: 5-XFBGA, DSBGA; Supplier Device Package: 5-DSBGA, 5-WCSP (1.4x0.9); ComponentLink1URL: http://www.ti.com/lit/ds/symlink/sn74lvc1g125.pdf; ComponentLink1Description: http://www.ti.com/lit/ds/symlink/sn74lvc1g125.pdf
footprint BGA5C50P2X3_89X139X50 (BGA, 5-Leads, Body 0.89x1.39mmx0.50mm, Pitch 0.50mm)
ibis LVC1G125_YZA (Model Description)
pins: A1 ~{OE} (in), A2 VCC (power), B1 1B (in), C1 GND (power), C2 1Y (oc)
text: A; Y

## SN74LVC1G126YZPR
designator U?
IC BUS BUFF TRI-ST N-INV 5DSBGA; Manufacturer: Texas Instruments; Logic Type: Buffer, Non-Inverting; Number of Elements: 1; Output Type: Push-Pull; Current - Output High, Low: 32mA, 32mA; Voltage - Supply: 1.65 V ~ 5.5 V; Supplier 1: Digi-Key; Supplier Part Number 1: 296-14361-6-ND; Manufacturer Part Number: SN74LVC1G126YZPR; RoHS: RoHS Compliant; Category: Integrated Circuits (ICs); Stock 1: 524; Pricing 1: 1=0.41, 10=0.359, 100=0.2676, 500=0.21018, 1000=0.16203 (EUR); Packaging: Digi-Reel®; Part Status: Active; Number of Bits per Element: 1; Input Type: -; Operating Temperature: -40°C ~ 85°C (TA); Mounting Type: Surface Mount; Package / Case: 5-XFBGA, DSBGA; Supplier Device Package: 5-DSBGA, 5-WCSP (1.4x0.9); ComponentLink1URL: http://www.ti.com/lit/ds/symlink/sn74lvc1g126.pdf; ComponentLink1Description: http://www.ti.com/lit/ds/symlink/sn74lvc1g126.pdf
ibis LVC1G126_YZP (Model Description)
footprint BGA5C50P2X3_89X139X50 (BGA, 5-Leads, Body 0.89x1.39mmx0.50mm, Pitch 0.50mm)
pins: A1 OE (in), A2 VCC (power), B1 1B (in), C1 GND (power), C2 1Y (oc)
text: A; Y

## SN74LVC2G08YZPR
designator U?
IC GATE AND 2CH 2-INP 8-DSBGA; Manufacturer: Texas Instruments; Logic Type: AND Gate; Number of Circuits: 2; Voltage - Supply: 1.65 V ~ 5.5 V; Current - Quiescent (Max): 10µA; Current - Output High, Low: 32mA, 32mA; Logic Level - Low: 0.7 V ~ 0.8 V; Logic Level - High: 1.7 V ~ 2 V; Max Propagation Delay @ V, Max CL: 3.8ns @ 5V, 50pF; Supplier 1: Digi-Key; Manufacturer Part Number: SN74LVC2G08YZPR; RoHS: RoHS Compliant; Category: Integrated Circuits (ICs); Stock 1: 9175; Pricing 1: 1=0.45, 10=0.393, 100=0.3006, 500=0.23818, 1000=0.19078 (GBP); Packaging: Digi-Reel®; Part Status: Active; Number of Inputs: 2; Features: -; Operating Temperature: -40°C ~ 85°C; Mounting Type: Surface Mount; Supplier Device Package: 8-DSBGA, 8-WCSP (1.9x0.9); Package / Case: 8-XFBGA, DSBGA; ComponentLink1URL: http://www.ti.com/lit/ds/symlink/sn74lvc2g08.pdf; ComponentLink1Description: http://www.ti.com/lit/ds/symlink/sn74lvc2g08.pdf; Supplier Part Number 1: 296-14371-6-ND
footprint BGA8C50P2X4_89X189X50_YZP (BGA, 8-Leads, Body 0.89x1.89mmx0.50mm, Pitch 0.50mm)
ibis LVC2G08_YZP (Model Description)
pins: A1 1A (in), A2 VCC (power), B1 1B (in), B2 1Y (out), C1 2Y (out), C2 2B (in), D1 GND (power), D2 2A (in)
text: A; Y; B

## SN74LVC3G34YZPR
designator U?
Buffer 3-CH Non-Inverting Push-Pull CMOS 8-Pin DSBGA T/R; Manufacturer: Texas Instruments; Supplier: Mouser; Supplier Part Number: 595-SN74LVC3G34YZPR; Manufacturer Part Number: SN74LVC3G34YZPR; RoHS: Yes; Category: Buffers, Drivers and Transceivers; Stock: 3170; Pricing: 1=0,93, 10=0,82, 50=0,82, 100=0,63, 1000=0,422, 10000=0,358 (USD); ComponentLink1URL: https://datasheet.ciiva.com/22677/1834194-22677929.pdf?src-supplier=Element14; ComponentLink1Description: https://datasheet.ciiva.com/22677/1834194-22677929.pdf?src-supplier=Element14; ComponentLink2URL: https://datasheet.ciiva.com/1834/sn74lvc3g34-1834461.pdf?src-supplier=Digi-Key; ComponentLink2Description: https://datasheet.ciiva.com/1834/sn74lvc3g34-1834461.pdf?src-supplier=Digi-Key; ComponentLink3URL: https://datasheet.ciiva.com/1834/sn74lvc3g34-1834462.pdf?src-supplier=Digi-Key; ComponentLink3Description: https://datasheet.ciiva.com/1834/sn74lvc3g34-1834462.pdf?src-supplier=Digi-Key; ComponentLink4URL: https://datasheet.ciiva.com/1834/sn74lvc3g34-1834463.pdf?src-supplier=Digi-Key; ComponentLink4Description: https://datasheet.ciiva.com/1834/sn74lvc3g34-1834463.pdf?src-supplier=Digi-Key; ComponentLink5URL: https://datasheet.ciiva.com/48702/001074067-da-01-en-ic-buffer-tr-sn74lvc3g34yzpr-dsbga-8-tid-48702711.pdf?src-supplier=Conrad; ComponentLink5Description: https://datasheet.ciiva.com/48702/001074067-da-01-en-ic-buffer-tr-sn74lvc3g34yzpr-dsbga-8-tid-48702711.pdf?src-supplier=Conrad; Supplier 1: Mouser; Supplier Part Number 1: 595-SN74LVC3G34YZPR; Supplier 2: Mouser; Supplier Part Number 2: 595-SN74LVC2G125YZPR
footprint BGA8C50P2X4_89X189X50_2 (BGA, 8-Leads, Body 0,89x1,89mmx0,50mm, Pitch 0,50mm)
part A pins: A1 1A (in), B2 1Y (out)
part B pins: C1 2A (in), D2 2Y (out)
part C pins: B1 3Y (out), C2 3A (in)
part D pins: A2 VCC (power), D1 GND (power)

## STC3115AIJT
designator U?
IC GAS GAUGE W/ALARM 10CSP; Manufacturer: STMicroelectronics; Function: Battery Monitor; Interface: I²C; Supplier 1: Digi-Key; Manufacturer Part Number: STC3115AIJT; RoHS: RoHS Compliant; Category: Integrated Circuits (ICs); Stock 1: 6784; Pricing 1: 1=1.75, 10=1.569, 100=1.2615, 500=1.03644, 1000=0.85876 (USD); Packaging: Digi-Reel®; Part Status: Active; Battery Chemistry: -; Number of Cells: -; Fault Protection: -; Operating Temperature: -40°C ~ 85°C (TA); Package / Case: 10-UFBGA, CSPBGA; Supplier Device Package: 10-CSP (2.01x1.37); ComponentLink1URL: http://www.st.com/content/ccc/resource/technical/document/datasheet/24/05/c6/c7/0c/72/41/39/DM00066800.pdf/files/DM00066800.pdf/jcr:content/translations/en.DM00066800.pdf; ComponentLink1Description: http://www.st.com/content/ccc/resource/technical/document/datasheet/24/05/c6/c7/0c/72/41/39/DM00066800.pdf/files/DM00066800.pdf/jcr:content/translations/en.DM00066800.pdf; Supplier Part Number 1: 497-13929-6-ND
footprint BGA10C40P3X4_137X201X66 (BGA, 10-Leads, Body 1.37x2.01mmx0.66mm, Pitch 0.40mm)
pins: A1 ALM (out), A3 VIN (in), B1 SDA (io), B2 BATD/CD (io), B3 VCC (power), C1 SCL (in), C3 RSTIO (io), D1 GND (power), D2 NC, D3 CG (in)

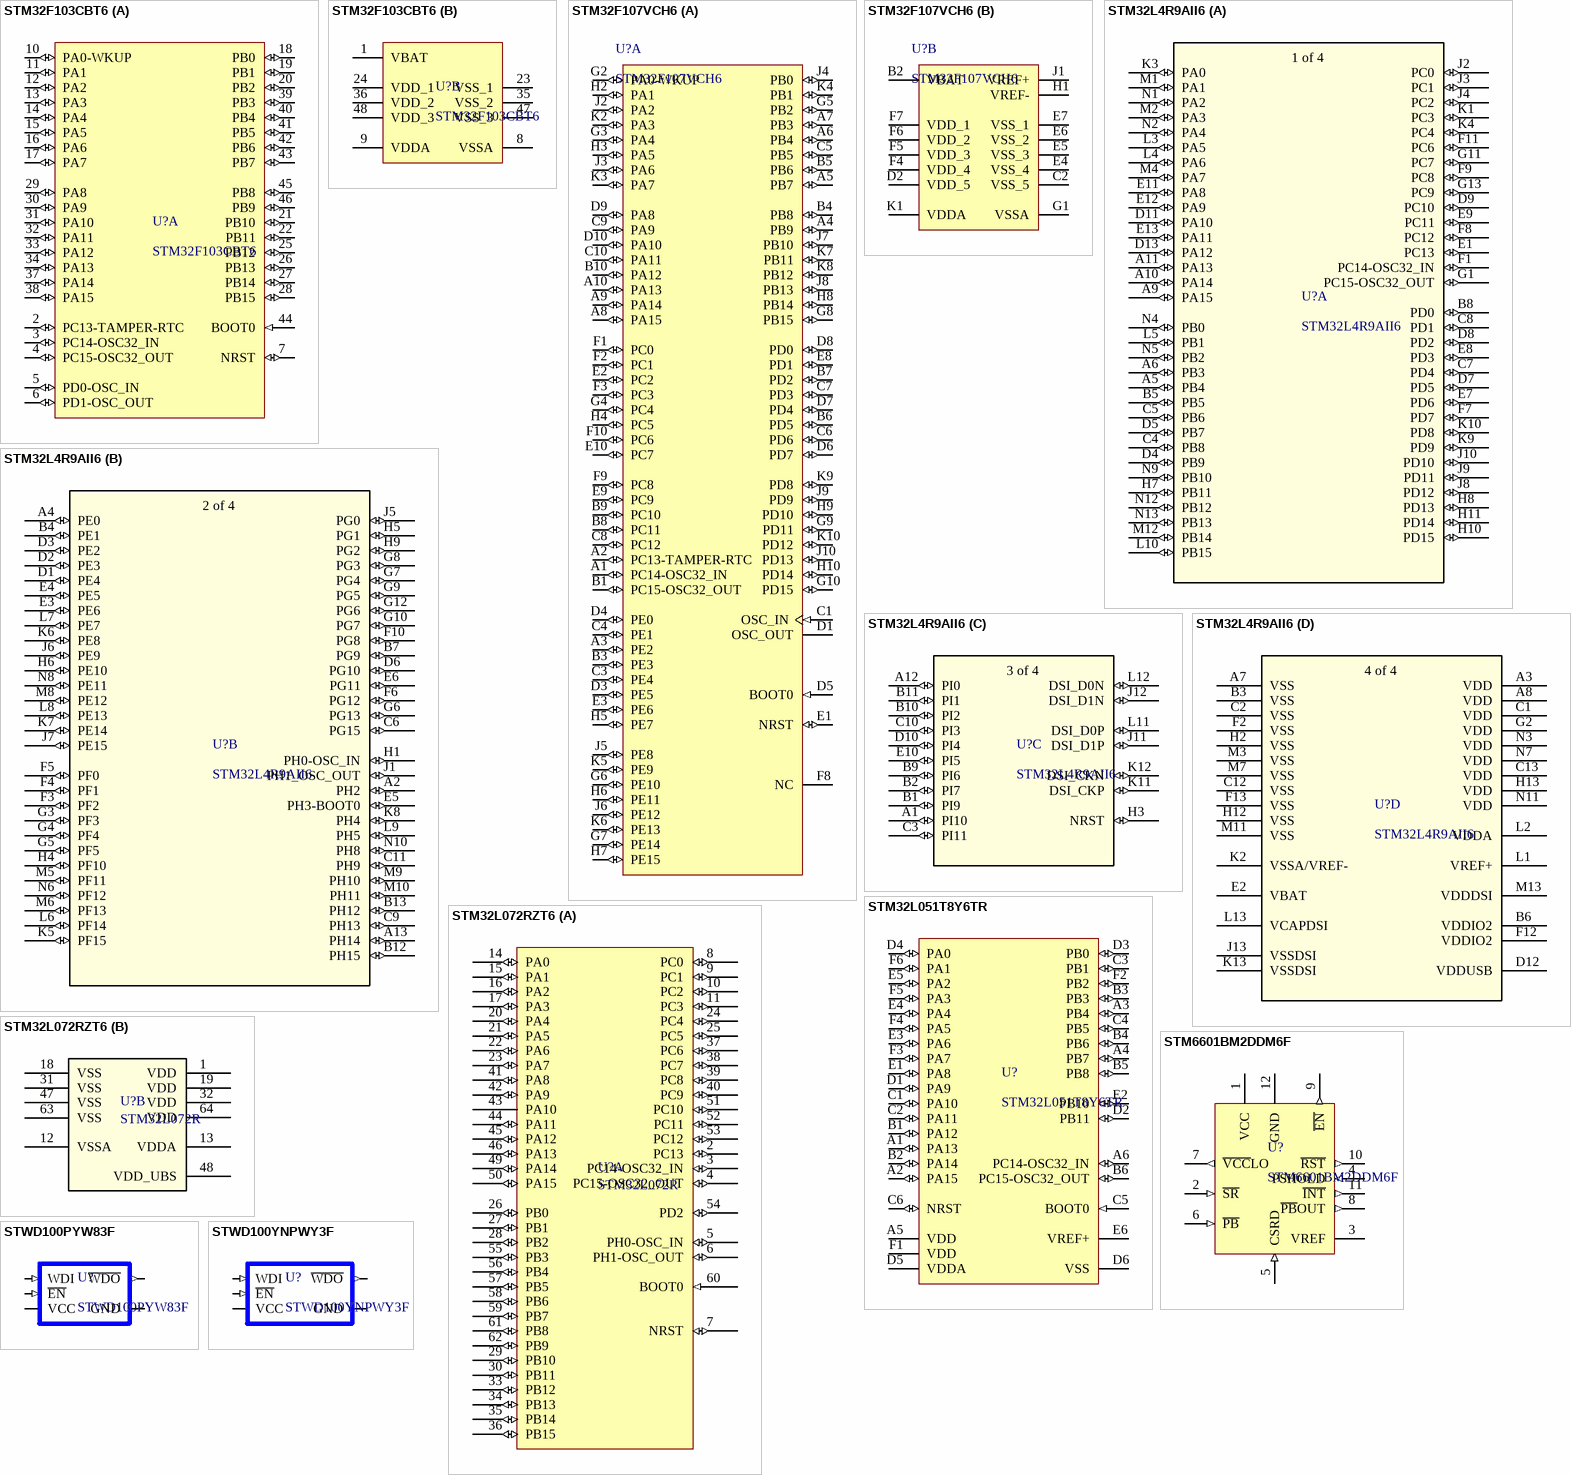
[diagram p24: symbols STM32F103CBT6 to STWD100YNPWY3F]

## STM32F103CBT6
designator U?
ARM Cortex-M3 STM32 F1 Microcontroller 32-Bit 72MHz 128kB FLASH LQFP48 STM32F103CBT6; Manufacturer: STMicroelectronics; RAM Size: 20KB; Max Power Dissipation: 363mW; Interface: I2C,SPI,USB,CAN,IrDA,UART,USART,LIN; Number of I/Os: 37; Number of Timers/Counters: 4; Max Supply Voltage: 3.6V; Number of PWM Channels: 12; Number of ADC Channels: 10; Min Supply Voltage: 2V; Oscillator Type: Internal; Data Bus Width: 32b; Number of Bits: 32; Number of SPI Channels: 2; Watchdog Timer: Yes; Peripherals: POR,PWM,WDT,DMA,Temp Sensor,I2C; Nominal Supply Current: 1.7uA; Number of A/D Converters: 2NUMBER; Supplier: Mouser; Supplier Part Number: 511-STM32F103CBT6; Manufacturer Part Number: STM32F103CBT6; RoHS: Yes; Category: Microcontrollers; Stock: 5793; Pricing: 1=7.04, 10=6.36, 50=5.27, 100=5.27, 1000=4, 10000=3.92 (USD); Case/Package: LQFP; Pins: 48; Min Operating Temperature: -40°C; Max Operating Temperature: 85°C; Frequency: 72MHz; Package Quantity: 250; Density: 128KB; Packaging: Tray; Number of Programmable I/O: 37; Clock Frequency: 72MHz; Number of I2C Channels: 2; Memory Format: FLASH; Termination: SMD/SMT; Address Bus Width: 32b; Memory Size: 128KB; Core Architecture: ARM; Series: STM32 F1; Min Supply Voltage (DC): 2V; Length: 7mm; Width: 7.2mm; Height: 1.45mm; Radiation Hardening: No; Reach SVHC Compliant: No; Lead Free: Lead Free; RoHS Compliant: Yes; ComponentLink1URL: https://datasheet.ciiva.com/23669/1714663-23669200.pdf?src-supplier=Newark; ComponentLink1Description: https://datasheet.ciiva.com/23669/1714663-23669200.pdf?src-supplier=Newark; ComponentLink2URL: https://datasheet.ciiva.com/15122/getdatasheetpartid-92132-15122195.pdf?src-supplier=Verical; ComponentLink2Description: https://datasheet.ciiva.com/15122/getdatasheetpartid-92132-15122195.pdf?src-supplier=Verical; ComponentLink3URL: https://datasheet.ciiva.com/5752/cd00161566-5752838.pdf?src-supplier=Farnell; ComponentLink3Description: https://datasheet.ciiva.com/5752/cd00161566-5752838.pdf?src-supplier=Farnell; ComponentLink4URL: https://datasheet.ciiva.com/14100/pustm-arm-microcont-stm32f103-en-14100509.pdf?src-supplier=Distrelec; ComponentLink4Description: https://datasheet.ciiva.com/14100/pustm-arm-microcont-stm32f103-en-14100509.pdf?src-supplier=Distrelec; ComponentLink5URL: https://datasheet.ciiva.com/1502/cd00161566-1502328.pdf?src-supplier=Digikey; ComponentLink5Description: https://datasheet.ciiva.com/1502/cd00161566-1502328.pdf?src-supplier=Digikey; ComponentLink6URL: https://datasheet.ciiva.com/4840/cd00161566-4840398.pdf?src-supplier=Mouser; ComponentLink6Description: https://datasheet.ciiva.com/4840/cd00161566-4840398.pdf?src-supplier=Mouser; ComponentLink7URL: https://datasheet.ciiva.com/16219/cd00161566-16219150.pdf?src-supplier=Future+Electronics; ComponentLink7Description: https://datasheet.ciiva.com/16219/cd00161566-16219150.pdf?src-supplier=Future+Electronics; Supplier 1: Mouser; Supplier Part Number 1: 511-STM32F103CBT6
footprint CQFP50P900X900X160-48N-STM32 (CQFP, 48-Leads, Body 9.00x9.00mm, Pitch 0.50mm, IPC Medium Density)
part A pins: 2 PC13-TAMPER-RTC (io) "PC13-TAMPER-RTC/PC13/TAMPER-RTC", 3 PC14-OSC32_IN (io) "PC14-OSC32_IN/PC14/OSC32_IN", 4 PC15-OSC32_OUT (io) "PC15-OSC32_OUT/PC15/OSC32_OUT", 5 PD0-OSC_IN (io) "PD0/OSC_IN", 6 PD1-OSC_OUT (io) "PD1/OSC_OUT", 7 NRST (io), 10 PA0-WKUP (io) "PA0-WKUP/PA0/WKUP/USART2_CTS/ADC12_IN0/TIM2_CH1_ETR", 11 PA1 (io) "PA1/USART2_RTS/ADC12_IN1/TIM2_CH2", 12 PA2 (io) "PA2/USART2_TX/ADC12_IN2/TIM2_CH3", 13 PA3 (io) "PA3/USART2_RX/ADC12_IN3/TIM2_CH4", 14 PA4 (io) "PA4/SPI1_NSS/USART2_CK/ADC12_IN4", 15 PA5 (io) "PA5/SPI1_SCK/ADC12_IN5", 16 PA6 (io) "PA6/SPI1_MISO/ADC12_IN6/TIM3_CH1/TIM1_BKIN", 17 PA7 (io) "PA7/SPI1_MOSI/ADC12_IN7/TIM3_CH2/TIM1_CH1N", 18 PB0 (io) "PB0/ADC12_IN8/TIM3_CH3/TIM1_CH2N", 19 PB1 (io) "PB1/ADC12_IN9/TIM3_CH4/TIM1_CH3N", 20 PB2 (io) "PB2/BOOT1", 21 PB10 (io) "PB10/I2C2_SCL/USART3_TX/TIM2_CH3", 22 PB11 (io) "PB11/I2C2_SDA/USART3_RX/TIM2_CH4", 25 PB12 (io) "PB12/SPI2_NSS/I2C2_SMBAl/USART3_CK/TIM1_BKIN", 26 PB13 (io) "PB13/SPI2_SCK/USART3_CTS/TIM1_CH1N", 27 PB14 (io) "PB14/SPI2_MISO/USART3_RTS/TIM1_CH2N", 28 PB15 (io) "PB15/SPI2_MOSI/TIM1_CH3N", 29 PA8 (io) "PA8/USART1_CK/TIM1_CH1/MCO", 30 PA9 (io) "PA9/USART1_TX/TIM1_CH2", 31 PA10 (io) "PA10/USART1_RX/TIM1_CH3", 32 PA11 (io) "PA11/USART1_CTS/CANRX/USBDM/TIM1_CH4", 33 PA12 (io) "PA12/USART1_RTS/CANTX/USBDP/TIM1_ETR", 34 PA13 (io) "PA13/JTMS/SWDIO", 37 PA14 (io) "PA14/JTCK/SWCLK", 38 PA15 (io) "PA15/JTDI/TIM2_CH1_ETR/SPI1_NSS", 39 PB3 (io) "PB3/JTDO/TIM2_CH2/TRACESWO/SPI1_SCK", 40 PB4 (io) "PB4/NJTRST/TIM3_CH1/SPI1_MISO", 41 PB5 (io) "PB5/I2C1_SMBAI/TIM3_CH2/SPI1_MOSI", 42 PB6 (io) "PB6/I2C1_SCL/TIM4_CH1/USART1_TX", 43 PB7 (io) "PB7/I2C1_SDA/TIM4_CH2/USART1_RX", 44 BOOT0 (in), 45 PB8 (io) "PB8/TIM4_CH3/I2C1_SCL/CANRX", 46 PB9 (io) "PB9/TIM4_CH4/I2C1_SDA/CANTX"
part B pins: 1 VBAT (power), 8 VSSA (power), 9 VDDA (power), 23 VSS_1 (power), 24 VDD_1 (power), 35 VSS_2 (power), 36 VDD_2 (power), 47 VSS_3 (power), 48 VDD_3 (power)

## STM32F107VCH6
designator U?
ARM Cortex-M3 32-bit MCU, 256 KB Flash, 64 KB Internal RAM, 80 I/Os, 100-pin LFBGA, -40 to 85 degC, Tray; Manufacturer: STMicroelectronics; A/D Converter: 2x12-bit (16 Channel); D/A Converter: 2x12-bit (2 Channel); FLASH Size (Prog) (kB): 256; I/Os (High Current): 80; Internal RAM Size (kB): 64; Operating Frequency(F) (Processor speed) (MHz): 72; Supply Voltage(Vcc) min (V): 2; Core Processor: ARM® Cortex®-M3; Speed: 72MHz; Connectivity: CAN, Ethernet, I²C, IrDA, LIN, SPI, UART/USART, USB OTG; Peripherals: DMA, POR, PWM, Voltage Detect, WDT; Program Memory Size: 256KB (256K x 8); RAM Size: 64K x 8; Voltage - Supply (Vcc/Vdd): 2 V ~ 3.6 V; Data Converters: A/D 16x12b; D/A 2x12b; DatasheetVersion: Rev. 6; PackageVersion: Rev. 8, 04/2011; PackageReference: LFBGA100; PackageDescription: 100-Ball Low Profile Fine Pitch BGA, 10 x 10 x 1.7 mm Body, 0.8 mm Pitch; Core: ARM Cortex-M3; Packing: Tray; Mounting Technology: Surface Mount; PartNumber: STM32F107VCH6; ComponentLink1Description: Manufacturer URL; ComponentLink1URL: http://www.st.com/web/en/home.html; ComponentLink2Description: Datasheet; ComponentLink2URL: http://www.st.com/st-web-ui/static/active/en/resource/technical/document/datasheet/CD00220364.pdf; ComponentLink3Description: Package Specification; ComponentLink3URL: http://www.st.com/st-web-ui/static/active/en/resource/technical/document/datasheet/CD00191185.pdf; Supplier 1: Digi-Key; Manufacturer Part Number: STM32F107VCH6; RoHS: RoHS Compliant; Category: Integrated Circuits (ICs); Stock 1: 1146; Pricing 1: 1=9.85, 10=8.897, 100=7.3656, 500=6.4139, 1000=5.5863 (USD); Packaging: Tray; Part Status: Active; Core Size: 32-Bit; Number of I/O: 80; Program Memory Type: FLASH; EEPROM Size: -; Oscillator Type: Internal; Operating Temperature: -40°C ~ 85°C (TA); Package / Case: 100-LFBGA; Supplier Device Package: 100-LFBGA (10x10); ComponentLink4URL: http://www.st.com/content/ccc/resource/technical/document/datasheet/e4/f3/1a/89/5a/02/46/ae/CD00220364.pdf/files/CD00220364.pdf/jcr:content/translations/en.CD00220364.pdf; ComponentLink4Description: http://www.st.com/content/ccc/resource/technical/document/datasheet/e4/f3/1a/89/5a/02/46/ae/CD00220364.pdf/files/CD00220364.pdf/jcr:content/translations/en.CD00220364.pdf; Supplier Part Number 1: 497-11549-ND
footprint STM-LFBGA100 (BGA, 100-Balls, Body 10x10mm, Pitch 0.8mm)
part A pins: A1 PC14-OSC32_IN (io) "PC14-OSC32_IN/PC14/OSC32_IN", A2 PC13-TAMPER-RTC (io) "PC13-TAMPER-RTC/PC13/TAMPER-RTC", A3 PE2 (io) "PE2/TRACECK", A4 PB9 (io) "PB9/TIM4_CH4/I2C1_SDA/CAN1_TX", A5 PB7 (io) "PB7/I2C1_SDA/TIM4_CH2/USART1_RX", A6 PB4 (io) "PB4/NJTRST/SPI3_MISO/TIM3_CH1/SPI1_MISO", A7 PB3 (io) "PB3/JTDO/SPI3_SCK/I2S3_CK/TRACESWO/TIM2_CH2/SPI1_SCK", A8 PA15 (io) "PA15/JTDI/SPI3_NSS/I2S3_WS/TIM2_CH1_ETR/SPI1_NSS", A9 PA14 (io) "PA14/JTCK-SWCLK", A10 PA13 (io) "PA13/JTMS-SWDIO", B1 PC15-OSC32_OUT (io) "PC15-OSC32_OUT/PC15/OSC32_OUT", B3 PE3 (io) "PE3/TRACED0", B4 PB8 (io) "PB8/TIM4_CH3/ETH_MII_TXD3/I2C1_SCL/CAN1_RX", B5 PB6 (io) "PB6/I2C1_SCL/TIM4_CH1/USART1_TX/CAN2_TX", B6 PD5 (io) "PD5/USART2_TX", B7 PD2 (io) "PD2/TIM3_ETR/UART5_RX", B8 PC11 (io) "PC11/UART4_RX/USART3_RX/SPI3_MISO", B9 PC10 (io) "PC10/UART4_TX/USART3_TX/SPI3_SCK/I2S3_CK", B10 PA12 (io) "PA12/USART1_RTS/OTG_FS_DP/CAN1_TX/TIM1_ETR", C1 OSC_IN (in), C3 PE4 (io) "PE4/TRACED1", C4 PE1 (io), C5 PB5 (io) "PB5/I2C1_SMBA/SPI3_MOSI/ETH_MII_PPS_OUT/I2S3_SD/ETH_RMII_PPS_OUT/TIM3_CH2/SPI1_MOSI/CAN2_RX", C6 PD6 (io) "PD6/USART2_RX", C7 PD3 (io) "PD3/USART2_CTS", C8 PC12 (io) "PC12/UART5_TX/USART3_CK/SPI3_MOSI/I2S3_SD", C9 PA9 (io) "PA9/USART1_TX/TIM1_CH2/OTG_FS_VBUS", C10 PA11 (io) "PA11/USART1_CTS/CAN1_RX/TIM1_CH4/OTG_FS_DM", D1 OSC_OUT, D3 PE5 (io) "PE5/TRACED2", D4 PE0 (io) "PE0/TIM4_ETR", D5 BOOT0 (in), D6 PD7 (io) "PD7/USART2_CK", D7 PD4 (io) "PD4/USART2_RTS", D8 PD0 (io) "PD0/OSC_IN/CAN1_RX", D9 PA8 (io) "PA8/USART1_CK/OTG_FS_SOF/TIM1_CH1/MCO", D10 PA10 (io) "PA10/USART1_RX/TIM1_CH3/OTG_FS_ID", E1 NRST (io), E2 PC2 (io) "PC2/ADC12_IN12/ETH_MII_TXD2", E3 PE6 (io) "PE6/TRACED3", E8 PD1 (io) "PD1/OSC_OUT/CAN1_TX", E9 PC9 (io) "PC9/TIM3_CH4", E10 PC7 (io) "PC7/I2S3_MCK/TIM3_CH2", F1 PC0 (io) "PC0/ADC12_IN10", F2 PC1 (io) "PC1/ADC12_IN11/ETH_MII_MDC/ETH_RMII_MDC", F3 PC3 (io) "PC3/ADC12_IN13/ETH_MII_TX_CLK", F8 NC, F9 PC8 (io) "PC8/TIM3_CH3", F10 PC6 (io) "PC6/I2S2_MCK/TIM3_CH1", G2 PA0-WKUP (io) "PA0-WKUP/PA0/WKUP/USART2_CTS/ADC12_IN0/TIM2_CH1_ETR/TIM5_CH1/ETH_MII_CRS_WKUP", G3 PA4 (io) "PA4/SPI1_NSS/DAC_OUT1/USART2_CK/ADC12_IN4/SPI3_NSS/I2S3_WS", G4 PC4 (io) "PC4/ADC12_IN14/ETH_MII_RXD0/ETH_RMII_RXD0", G5 PB2 (io) "PB2/BOOT1", G6 PE10 (io) "PE10/TIM1_CH2N", G7 PE14 (io) "PE14/TIM1_CH4", G8 PB15 (io) "PB15/SPI2_MOSI/I2S2_SD/TIM1_CH3N", G9 PD11 (io) "PD11/USART3_CTS/ETH_MII_RXD2", G10 PD15 (io) "PD15/TIM4_CH4", H2 PA1 (io) "PA1/USART2_RTS/ADC12_IN1/TIM5_CH2/TIM2_CH2/ETH_MII_RX_CLK/ETH_RMII_REF_CLK", H3 PA5 (io) "PA5/SPI1_SCK/DAC_OUT2/ADC12_IN5", H4 PC5 (io) "PC5/ADC12_IN15/ETH_MII_RXD1/ETH_RMII_RXD1", H5 PE7 (io) "PE7/TIM1_ETR", H6 PE11 (io) "PE11/TIM1_CH2", H7 PE15 (io) "PE15/TIM1_BKIN", H8 PB14 (io) "PB14/SPI2_MISO/TIM1_CH2N/USART3_RTS", H9 PD10 (io) "PD10/USART3_CK/ETH_MII_RXD1/ETH_RMII_RXD1", H10 PD14 (io) "PD14/TIM4_CH3", J2 PA2 (io) "PA2/USART2_TX/TIM5_CH3/ADC12_IN2/TIM2_CH3/ETH_MII_MDIO/ETH_RMII_MDIO", J3 PA6 (io) "PA6/SPI1_MISO/ADC12_IN6/TIM3_CH1/TIM1_BKIN", J4 PB0 (io) "PB0/ADC12_IN8/TIM3_CH3/ETH_MII_RXD2/TIM1_CH2N", J5 PE8 (io) "PE8/TIM1_CH1N", J6 PE12 (io) "PE12/TIM1_CH3N", J7 PB10 (io) "PB10/I2C2_SCL/USART3_TX/ETH_MII_RX_ER/TIM2_CH3", J8 PB13 (io) "PB13/SPI2_SCK/I2S2_CK/USART3_CTS/TIM1_CH1N/CAN2_TX/ETH_MII_TXD1/ETH_RMII_TXD1", J9 PD9 (io) "PD9/USART3_RX/ETH_MII_RXD0/ETH_RMII_RXD0", J10 PD13 (io) "PD13/TIM4_CH2", K2 PA3 (io) "PA3/USART2_RX/TIM5_CH4/ADC12_IN3/TIM2_CH4/ETH_MII_COL", K3 PA7 (io) "PA7/SPI1_MOSI/ADC12_IN7/TIM3_CH2/ETH_MII_RX_DV/ETH_RMII_CRS_DV/TIM1_CH1N", K4 PB1 (io) "PB1/ADC12_IN9/TIM3_CH4/ETH_MII_RXD3/TIM1_CH3N", K5 PE9 (io) "PE9/TIM1_CH1", K6 PE13 (io) "PE13/TIM1_CH3", K7 PB11 (io) "PB11/I2C2_SDA/USART3_RX/ETH_MII_TX_EN/ETH_RMII_TX_EN/TIM2_CH4", K8 PB12 (io) "PB12/SPI2_NSS/I2S2_WS/I2C2_SMBA/USART3_CK/TIM1_BKIN/CAN2_RX/ETH_MII_TXD0/ETH_RMII_TXD0", K9 PD8 (io) "PD8/USART3_TX/ETH_MII_RX_DV/ETH_RMII_CRS_DV", K10 PD12 (io) "PD12/TIM4_CH1/USART3_RTS/ETH_MII_RXD3"
part B pins: B2 VBAT (power), C2 VSS_5 (power), D2 VDD_5 (power), E4 VSS_4 (power), E5 VSS_3 (power), E6 VSS_2 (power), E7 VSS_1 (power), F4 VDD_4 (power), F5 VDD_3 (power), F6 VDD_2 (power), F7 VDD_1 (power), G1 VSSA (power), H1 VREF- (power), J1 VREF+ (power), K1 VDDA (power)

## STM32L4R9AII6
designator U?
MCU 32-bit ARM Cortex M4 RISC 2MB Flash 3.3V 169-Pin UFBGA Frame; Manufacturer: STMicroelectronics; Supplier: Mouser; Supplier Part Number: 511-STM32L4R9AII6; Manufacturer Part Number: STM32L4R9AII6; RoHS: Yes; Category: Microcontrollers; Stock: 12827; Pricing: 1=21,28, 10=19,56, 50=16,53, 100=16,53, 1000=14,71, 10000=14,71 (USD); ComponentLink1URL: https://datasheet.octopart.com/STM32L4R9AII6-STMicroelectronics-datasheet-99719194.pdf?src-supplier=Newark; ComponentLink1Description: https://datasheet.octopart.com/STM32L4R9AII6-STMicroelectronics-datasheet-99719194.pdf?src-supplier=Newark; ComponentLink2URL: http://www.st.com/content/ccc/resource/technical/document/datasheet/group3/98/80/dc/e5/f8/4b/4b/a3/DM00366448/files/DM00366448.pdf/jcr:content/translations/en.DM00366448.pdf?src-supplier=Digi-Key; ComponentLink2Description: http://www.st.com/content/ccc/resource/technical/document/datasheet/group3/98/80/dc/e5/f8/4b/4b/a3/DM00366448/files/DM00366448.pdf/jcr:content/translations/en.DM00366448.pdf?src-supplier=Digi-Key; ComponentLink3URL: https://datasheet.octopart.com/STM32L4R9AII6-STMicroelectronics-datasheet-159009265.pdf?src-supplier=SHENGYU+ELECTRONICS; ComponentLink3Description: https://datasheet.octopart.com/STM32L4R9AII6-STMicroelectronics-datasheet-159009265.pdf?src-supplier=SHENGYU+ELECTRONICS; Supplier 1: Mouser; Supplier Part Number 1: 511-STM32L4R9AII6
footprint BGA169C50P13X13_700X700X60 (BGA, 169-Leads, Body 7,00x7,00mmx0,60mm, Pitch 0,50mm)
part A pins: A5 PB4 (io), A6 PB3 (io), A9 PA15 (io), A10 PA14 (io), A11 PA13 (io), B5 PB5 (io), B8 PD0 (io), C4 PB8 (io), C5 PB6 (io), C7 PD4 (io), C8 PD1 (io), D4 PB9 (io), D5 PB7 (io), D7 PD5 (io), D8 PD2 (io), D9 PC10 (io), D11 PA10 (io), D13 PA12 (io), E1 PC13 (io), E7 PD6 (io), E8 PD3 (io), E9 PC11 (io), E11 PA8 (io), E12 PA9 (io), E13 PA11 (io), F1 PC14-OSC32_IN (io), F7 PD7 (io), F8 PC12 (io), F9 PC8 (io), F11 PC6 (io), G1 PC15-OSC32_OUT (io), G11 PC7 (io), G13 PC9 (io), H7 PB11 (io), H8 PD13 (io), H10 PD15 (io), H11 PD14 (io), J2 PC0 (io), J3 PC1 (io), J4 PC2 (io), J8 PD12 (io), J9 PD11 (io), J10 PD10 (io), K1 PC3 (io), K3 PA0 (io), K4 PC4 (io), K9 PD9 (io), K10 PD8 (io), L3 PA5 (io), L4 PA6 (io), L5 PB1 (io), L10 PB15 (io), M1 PA1 (io), M2 PA3 (io), M4 PA7 (io), M12 PB14 (io), N1 PA2 (io), N2 PA4 (io), N4 PB0 (io), N5 PB2 (io), N9 PB10 (io), N12 PB12 (io), N13 PB13 (io)
part B pins: A2 PH2 (io), A4 PE0 (io), A13 PH14 (io), B4 PE1 (io), B7 PG9 (io), B12 PH15 (io), B13 PH12 (io), C6 PG15 (io), C9 PH13 (io), C11 PH9 (io), D1 PE4 (io), D2 PE3 (io), D3 PE2 (io), D6 PG10 (io), E3 PE6 (io), E4 PE5 (io), E5 PH3-BOOT0 (io), E6 PG11 (io), F3 PF2 (io), F4 PF1 (io), F5 PF0 (io), F6 PG12 (io), F10 PG8 (io), G3 PF3 (io), G4 PF4 (io), G5 PF5 (io), G6 PG13 (io), G7 PG4 (io), G8 PG3 (io), G9 PG5 (io), G10 PG7 (io), G12 PG6 (io), H1 PH0-OSC_IN (io), H4 PF10 (io), H5 PG1 (io), H6 PE10 (io), H9 PG2 (io), J1 PH1_OSC_OUT (io), J5 PG0 (io), J6 PE9 (io), J7 PE15 (io), K5 PF15 (io), K6 PE8 (io), K7 PE14 (io), K8 PH4 (io), L6 PF14 (io), L7 PE7 (io), L8 PE13 (io), L9 PH5 (io), M5 PF11 (io), M6 PF13 (io), M8 PE12 (io), M9 PH10 (io), M10 PH11 (io), N6 PF12 (io), N8 PE11 (io), N10 PH8 (io)
part C pins: A1 PI10 (io), A12 PI0 (io), B1 PI9 (io), B2 PI7 (io), B9 PI6 (io), B10 PI2 (io), B11 PI1 (io), C3 PI11 (io), C10 PI3 (io), D10 PI4 (io), E10 PI5 (io), H3 NRST (io), J11 DSI_D1P (io), J12 DSI_D1N (io), K11 DSI_CKP (io), K12 DSI_CKN (io), L11 DSI_D0P (io), L12 DSI_D0N (io)
part D pins: A3 VDD (power), A7 VSS (power), A8 VDD (power), B3 VSS (power), B6 VDDIO2 (power), C1 VDD (power), C2 VSS (power), C12 VSS (power), C13 VDD (power), D12 VDDUSB (power), E2 VBAT (power), F2 VSS (power), F12 VDDIO2 (power), F13 VSS (power), G2 VDD (power), H2 VSS (power), H12 VSS (power), H13 VDD (power), J13 VSSDSI (power), K2 VSSA/VREF- (power), K13 VSSDSI (power), L1 VREF+ (power), L2 VDDA (power), L13 VCAPDSI (power), M3 VSS (power), M7 VSS (power), M11 VSS (power), M13 VDDDSI (power), N3 VDD (power), N7 VDD (power), N11 VDD (power)
part A text: 1 of 4
part B text: 2 of 4
part C text: 3 of 4
part D text: 4 of 4